# Altium integrated library Philips Discrete MOSFET - Low Power.IntLib: 30 symbols
Pins are listed as number, name and electrical type; pins without a type are passive.

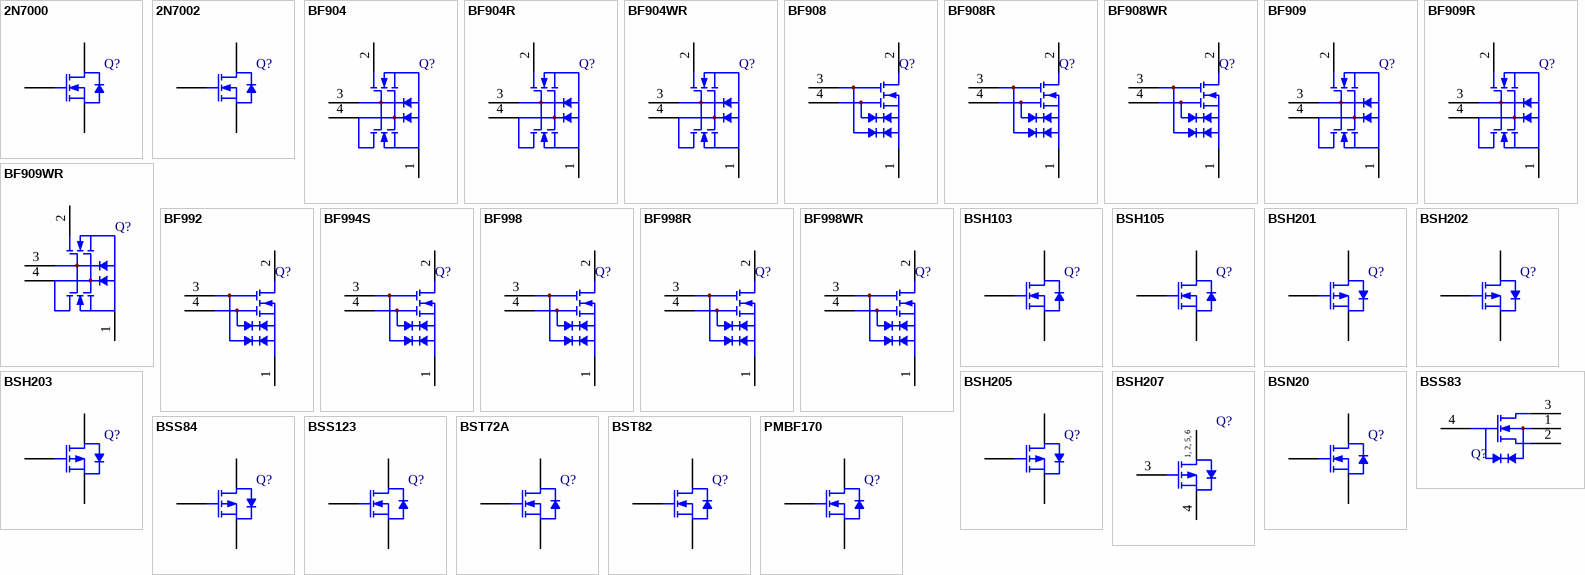
[diagram p0: symbols 2N7000 to PMBF170]

## 2N7000
designator Q?
N-channel Enhancement Mode Field-effect Transistor; Published: 17-Sep-2003; DatasheetVersion: 19-May-2000; PackageVersion: rev3, May-2000; PackageReference: SOT54; Publisher: Altium Limited; PackageDescription: TO, Flat Index; 3 In-Line, Axial Leads; Body Dia. 4.6mm; Leads 0.48 x 0.45 mm (max); Code_JEDEC: TO-92; ComponentLink1Description: Manufacturer Link; ComponentLink1URL: http://www.semiconductors.philips.com/; ComponentLink2Description: Datasheet; ComponentLink2URL: http://www.semiconductors.philips.com/acrobat/datasheets/2N7000-03.pdf
footprint SOT54 (TO, Flat Index; 3 In-Line, Axial Leads; Body Dia. 4.6mm; Leads 0.48 x 0.45 mm (max))
simulation model 2N7000 (SUBCKT)
pins: 1 D, 2 G, 3 S

## 2N7002
designator Q?
N-channel Enhancement Mode Field-effect Transistor; Published: 17-Sep-2003; DatasheetVersion: 27-Jul-2000; PackageVersion: May-1999; PackageReference: SOT23; Publisher: Altium Limited; PackageDescription: SOT-23; 3 Leads; Body 3.0 x 2.5 mm, inc. leads (LxW max); ComponentLink1Description: Manufacturer Link; ComponentLink1URL: http://www.semiconductors.philips.com/; ComponentLink2Description: Datasheet; ComponentLink2URL: http://www.semiconductors.philips.com/acrobat/datasheets/2N7002_4.pdf
footprint SOT23 (SOT-23; 3 Leads; Body 3.0 x 2.5 mm, inc. leads (LxW max))
simulation model 2N7002 (SUBCKT)
pins: 1 G, 2 S, 3 D

## BF904
designator Q?
N-channel Dual-gate MOSFET; Published: 17-Sep-2003; DatasheetVersion: 17-May-1999; PackageVersion: Oct-2001; PackageReference: SOT143B; Publisher: Altium Limited; PackageDescription: SOT-143; 4 Leads; Body 3 x 2.5 mm, inc. leads (LxW max); ComponentLink1Description: Manufacturer Link; ComponentLink1URL: http://www.semiconductors.philips.com/; ComponentLink2Description: Datasheet; ComponentLink2URL: http://www.semiconductors.philips.com/acrobat/datasheets/BF904_904R_5.pdf
footprint SOT143B (SOT-143; 4 Leads; Body 3 x 2.5 mm, inc. leads (LxW max))
simulation model BF904 (SUBCKT)
pins: 1 S, 2 D, 3 G2, 4 G1

## BF904R
designator Q?
N-channel Dual-gate MOSFET; Published: 17-Sep-2003; DatasheetVersion: 17-May-1999; PackageVersion: May-1999; PackageReference: SOT143R; Publisher: Altium Limited; PackageDescription: SOT-143; 4 Leads; Body 3 x 2.5 mm, inc. leads (LxW max); Reverse Pinning; ComponentLink1Description: Manufacturer Link; ComponentLink1URL: http://www.semiconductors.philips.com/; ComponentLink2Description: Datasheet; ComponentLink2URL: http://www.semiconductors.philips.com/acrobat/datasheets/BF904_904R_5.pdf
footprint SOT143R (SOT-143; 4 Leads; Body 3 x 2.5 mm, inc. leads (LxW max); Reverse Pinning)
simulation model BF904R (SUBCKT)
pins: 1 S, 2 D, 3 G2, 4 G1

## BF904WR
designator Q?
N-channel Dual-gate MOSFET; Published: 17-Sep-2003; DatasheetVersion: 25-Apr-1995; PackageVersion: Jul-1998; PackageReference: SOT343R; Publisher: Altium Limited; PackageDescription: SOT-343; 4 Leads; Body 2.2 x 2.2 mm, inc. leads (LxW max); Reverse Pinning; ComponentLink1Description: Manufacturer Link; ComponentLink1URL: http://www.semiconductors.philips.com/; ComponentLink2Description: Datasheet; ComponentLink2URL: http://www.semiconductors.philips.com/acrobat/datasheets/BF904WR_1.pdf
footprint SOT343R (SOT-343; 4 Leads; Body 2.2 x 2.2 mm, inc. leads (LxW max); Reverse Pinning)
simulation model BF904WR (SUBCKT)
pins: 1 S, 2 D, 3 G2, 4 G1

## BF908
designator Q?
Dual-gate MOSFET; Published: 17-Sep-2003; DatasheetVersion: 30-Jul-1996; PackageVersion: Sep-1996; PackageReference: SOT143; Publisher: Altium Limited; PackageDescription: SOT-143; 4 Leads; Body 3 x 2.5 mm, inc. leads (LxW max); ComponentLink1Description: Manufacturer Link; ComponentLink1URL: http://www.semiconductors.philips.com/; ComponentLink2Description: Datasheet; ComponentLink2URL: http://www.semiconductors.philips.com/acrobat/datasheets/BF908-R_2.pdf
footprint SOT143 (SOT-143; 4 Leads; Body 3 x 2.5 mm, inc. leads (LxW max))
simulation model BF908 (SUBCKT)
pins: 1 S, 2 D, 3 G2, 4 G1

## BF908R
designator Q?
Dual-gate MOSFET; Published: 17-Sep-2003; DatasheetVersion: 30-Jul-1996; PackageVersion: May-1999; PackageReference: SOT143R; Publisher: Altium Limited; PackageDescription: SOT-143; 4 Leads; Body 3 x 2.5 mm, inc. leads (LxW max); Reverse Pinning; ComponentLink1Description: Manufacturer Link; ComponentLink1URL: http://www.semiconductors.philips.com/; ComponentLink2Description: Datasheet; ComponentLink2URL: http://www.semiconductors.philips.com/acrobat/datasheets/BF908-R_2.pdf
footprint SOT143R (SOT-143; 4 Leads; Body 3 x 2.5 mm, inc. leads (LxW max); Reverse Pinning)
simulation model BF908R (SUBCKT)
pins: 1 S, 2 D, 3 G2, 4 G1

## BF908WR
designator Q?
N-channel Dual-gate MOSFET; Published: 17-Sep-2003; DatasheetVersion: 25-Apr-1995; PackageVersion: Jul-1998; PackageReference: SOT343R; Publisher: Altium Limited; PackageDescription: SOT-343; 4 Leads; Body 2.2 x 2.2 mm, inc. leads (LxW max); Reverse Pinning; ComponentLink1Description: Manufacturer Link; ComponentLink1URL: http://www.semiconductors.philips.com/; ComponentLink2Description: Datasheet; ComponentLink2URL: http://www.semiconductors.philips.com/acrobat/datasheets/BF908WR_1.pdf
footprint SOT343R (SOT-343; 4 Leads; Body 2.2 x 2.2 mm, inc. leads (LxW max); Reverse Pinning)
simulation model BF908WR (SUBCKT)
pins: 1 S, 2 D, 3 G2, 4 G1

## BF909
designator Q?
N-channel Dual-gate MOSFET; Published: 17-Sep-2003; DatasheetVersion: 25-Apr-1995; PackageVersion: Sep-1996; PackageReference: SOT143; Publisher: Altium Limited; PackageDescription: SOT-143; 4 Leads; Body 3 x 2.5 mm, inc. leads (LxW max); ComponentLink1Description: Manufacturer Link; ComponentLink1URL: http://www.semiconductors.philips.com/; ComponentLink2Description: Datasheet; ComponentLink2URL: http://www.semiconductors.philips.com/acrobat/datasheets/BF909_1.pdf
footprint SOT143 (SOT-143; 4 Leads; Body 3 x 2.5 mm, inc. leads (LxW max))
simulation model BF909 (SUBCKT)
pins: 1 S, 2 D, 3 G2, 4 G1

## BF909R
designator Q?
N-channel Dual-gate MOSFET; Published: 17-Sep-2003; DatasheetVersion: 25-Apr-1995; PackageVersion: May-1999; PackageReference: SOT143R; Publisher: Altium Limited; PackageDescription: SOT-143; 4 Leads; Body 3 x 2.5 mm, inc. leads (LxW max); Reverse Pinning; ComponentLink1Description: Manufacturer Link; ComponentLink1URL: http://www.semiconductors.philips.com/; ComponentLink2Description: Datasheet; ComponentLink2URL: http://www.semiconductors.philips.com/acrobat/datasheets/BF909_1.pdf
footprint SOT143R (SOT-143; 4 Leads; Body 3 x 2.5 mm, inc. leads (LxW max); Reverse Pinning)
simulation model BF909R (SUBCKT)
pins: 1 S, 2 D, 3 G2, 4 G1

## BF909WR
designator Q?
N-channel Dual-gate MOSFET; Published: 17-Sep-2003; DatasheetVersion: 5-Sep-1997; PackageVersion: Jul-1998; PackageReference: SOT343R; Publisher: Altium Limited; PackageDescription: SOT-343; 4 Leads; Body 2.2 x 2.2 mm, inc. leads (LxW max); Reverse Pinning; ComponentLink1Description: Manufacturer Link; ComponentLink1URL: http://www.semiconductors.philips.com/; ComponentLink2Description: Datasheet; ComponentLink2URL: http://www.semiconductors.philips.com/acrobat/datasheets/BF909WR_2.pdf
footprint SOT343R (SOT-343; 4 Leads; Body 2.2 x 2.2 mm, inc. leads (LxW max); Reverse Pinning)
simulation model BF909WR (SUBCKT)
pins: 1 S, 2 D, 3 G2, 4 G1

## BF992
designator Q?
Silicon N-channel Dual-gate MOSFET; Published: 17-Sep-2003; DatasheetVersion: 11-Aug-1999; PackageVersion: Oct-2001; PackageReference: SOT143B; Publisher: Altium Limited; PackageDescription: SOT-143; 4 Leads; Body 3 x 2.5 mm, inc. leads (LxW max); ComponentLink1Description: Manufacturer Link; ComponentLink1URL: http://www.semiconductors.philips.com/; ComponentLink2Description: Datasheet; ComponentLink2URL: http://www.semiconductors.philips.com/acrobat/datasheets/BF992_3.pdf
footprint SOT143B (SOT-143; 4 Leads; Body 3 x 2.5 mm, inc. leads (LxW max))
simulation model BF992 (SUBCKT)
pins: 1 S, 2 D, 3 G2, 4 G1

## BF994S
designator Q?
N-channel Dual-gate MOSFET; Published: 17-Sep-2003; DatasheetVersion: Jul-1993; PackageVersion: Sep-1996; PackageReference: SOT143; Publisher: Altium Limited; PackageDescription: SOT-143; 4 Leads; Body 3 x 2.5 mm, inc. leads (LxW max); ComponentLink1Description: Manufacturer Link; ComponentLink1URL: http://www.semiconductors.philips.com/; ComponentLink2Description: Datasheet; ComponentLink2URL: http://www.semiconductors.philips.com/acrobat/datasheets/BF994S_2.pdf
footprint SOT143 (SOT-143; 4 Leads; Body 3 x 2.5 mm, inc. leads (LxW max))
simulation model BF994S (SUBCKT)
pins: 1 S, 2 D, 3 G2, 4 G1

## BF998
designator Q?
Silicon N-channel Dual-gate MOSFET; Published: 17-Sep-2003; DatasheetVersion: Aug-1996; PackageVersion: Sep-1996; PackageReference: SOT143; Publisher: Altium Limited; PackageDescription: SOT-143; 4 Leads; Body 3 x 2.5 mm, inc. leads (LxW max); ComponentLink1Description: Manufacturer Link; ComponentLink1URL: http://www.semiconductors.philips.com/; ComponentLink2Description: Datasheet; ComponentLink2URL: http://www.semiconductors.philips.com/acrobat/datasheets/BF998_2.pdf
footprint SOT143 (SOT-143; 4 Leads; Body 3 x 2.5 mm, inc. leads (LxW max))
simulation model BF998 (SUBCKT)
pins: 1 S, 2 D, 3 G2, 4 G1

## BF998R
designator Q?
Silicon N-channel Dual-gate MOSFET; Published: 17-Sep-2003; DatasheetVersion: Aug-1996; PackageVersion: May-1999; PackageReference: SOT143R; Publisher: Altium Limited; PackageDescription: SOT-143; 4 Leads; Body 3 x 2.5 mm, inc. leads (LxW max); Reverse Pinning; ComponentLink1Description: Manufacturer Link; ComponentLink1URL: http://www.semiconductors.philips.com/; ComponentLink2Description: Datasheet; ComponentLink2URL: http://www.semiconductors.philips.com/acrobat/datasheets/BF998_2.pdf
footprint SOT143R (SOT-143; 4 Leads; Body 3 x 2.5 mm, inc. leads (LxW max); Reverse Pinning)
simulation model BF998R (SUBCKT)
pins: 1 S, 2 D, 3 G2, 4 G1

## BF998WR
designator Q?
N-channel Dual-gate MOSFET; Published: 17-Sep-2003; DatasheetVersion: 5-Sep-1997; PackageVersion: Jul-1998; PackageReference: SOT343R; Publisher: Altium Limited; PackageDescription: SOT-343; 4 Leads; Body 2.2 x 2.2 mm, inc. leads (LxW max); Reverse Pinning; ComponentLink1Description: Manufacturer Link; ComponentLink1URL: http://www.semiconductors.philips.com/; ComponentLink2Description: Datasheet; ComponentLink2URL: http://www.semiconductors.philips.com/acrobat/datasheets/BF998WR_2.pdf
footprint SOT343R (SOT-343; 4 Leads; Body 2.2 x 2.2 mm, inc. leads (LxW max); Reverse Pinning)
simulation model BF998WR (SUBCKT)
pins: 1 S, 2 D, 3 G2, 4 G1

## BSH103
designator Q?
N-channel Enhancement Mode MOSFET; Published: 17-Sep-2003; DatasheetVersion: 11-Feb-1998; PackageVersion: May-1999; PackageReference: SOT23; Publisher: Altium Limited; PackageDescription: SOT-23; 3 Leads; Body 3.0 x 2.5 mm, inc. leads (LxW max); ComponentLink1Description: Manufacturer Link; ComponentLink1URL: http://www.semiconductors.philips.com/; ComponentLink2Description: Datasheet; ComponentLink2URL: http://www.semiconductors.philips.com/acrobat/datasheets/BSH103_4.pdf
footprint SOT23 (SOT-23; 3 Leads; Body 3.0 x 2.5 mm, inc. leads (LxW max))
simulation model BSH103 (SUBCKT)
pins: 1 G, 2 S, 3 D

## BSH105
designator Q?
N-channel Enhancement Mode MOSFET; Published: 17-Sep-2003; DatasheetVersion: Aug-1998; PackageVersion: May-1999; PackageReference: SOT23; Publisher: Altium Limited; PackageDescription: SOT-23; 3 Leads; Body 3.0 x 2.5 mm, inc. leads (LxW max); ComponentLink1Description: Manufacturer Link; ComponentLink1URL: http://www.semiconductors.philips.com/; ComponentLink2Description: Datasheet; ComponentLink2URL: http://www.semiconductors.philips.com/acrobat/datasheets/BSH105_3.pdf
footprint SOT23 (SOT-23; 3 Leads; Body 3.0 x 2.5 mm, inc. leads (LxW max))
simulation model BSH105 (SUBCKT)
pins: 1 G, 2 S, 3 D

## BSH201
designator Q?
P-channel Enhancement Mode MOSFET; Published: 17-Sep-2003; DatasheetVersion: Aug-1998; PackageVersion: May-1999; PackageReference: SOT23; Publisher: Altium Limited; PackageDescription: SOT-23; 3 Leads; Body 3.0 x 2.5 mm, inc. leads (LxW max); ComponentLink1Description: Manufacturer Link; ComponentLink1URL: http://www.semiconductors.philips.com/; ComponentLink2Description: Datasheet; ComponentLink2URL: http://www.semiconductors.philips.com/acrobat/datasheets/BSH201_3.pdf
footprint SOT23 (SOT-23; 3 Leads; Body 3.0 x 2.5 mm, inc. leads (LxW max))
simulation model BSH201 (SUBCKT)
pins: 1 G, 2 S, 3 D

## BSH202
designator Q?
P-channel Enhancement Mode MOSFET; Published: 17-Sep-2003; DatasheetVersion: Aug-1998; PackageVersion: May-1999; PackageReference: SOT23; Publisher: Altium Limited; PackageDescription: SOT-23; 3 Leads; Body 3.0 x 2.5 mm, inc. leads (LxW max); ComponentLink1Description: Manufacturer Link; ComponentLink1URL: http://www.semiconductors.philips.com/; ComponentLink2Description: Datasheet; ComponentLink2URL: http://www.semiconductors.philips.com/acrobat/datasheets/BSH202_3.pdf
footprint SOT23 (SOT-23; 3 Leads; Body 3.0 x 2.5 mm, inc. leads (LxW max))
simulation model BSH202 (SUBCKT)
pins: 1 G, 2 S, 3 D

## BSH203
designator Q?
P-channel Enhancement Mode MOSFET; Published: 17-Sep-2003; DatasheetVersion: Aug-1998; PackageVersion: May-1999; PackageReference: SOT23; Publisher: Altium Limited; PackageDescription: SOT-23; 3 Leads; Body 3.0 x 2.5 mm, inc. leads (LxW max); ComponentLink1Description: Manufacturer Link; ComponentLink1URL: http://www.semiconductors.philips.com/; ComponentLink2Description: Datasheet; ComponentLink2URL: http://www.semiconductors.philips.com/acrobat/datasheets/BSH203_3.pdf
footprint SOT23 (SOT-23; 3 Leads; Body 3.0 x 2.5 mm, inc. leads (LxW max))
simulation model BSH203 (SUBCKT)
pins: 1 G, 2 S, 3 D

## BSH205
designator Q?
P-channel Enhancement Mode MOSFET; Published: 17-Sep-2003; DatasheetVersion: Aug-1998; PackageVersion: May-1999; PackageReference: SOT23; Publisher: Altium Limited; PackageDescription: SOT-23; 3 Leads; Body 3.0 x 2.5 mm, inc. leads (LxW max); ComponentLink1Description: Manufacturer Link; ComponentLink1URL: http://www.semiconductors.philips.com/; ComponentLink2Description: Datasheet; ComponentLink2URL: http://www.semiconductors.philips.com/acrobat/datasheets/BSH205_3.pdf
footprint SOT23 (SOT-23; 3 Leads; Body 3.0 x 2.5 mm, inc. leads (LxW max))
simulation model BSH205 (SUBCKT)
pins: 1 G, 2 S, 3 D

## BSH207
designator Q?
P-channel Enhancement Mode MOSFET; Published: 17-Sep-2003; DatasheetVersion: Aug-1998; PackageVersion: May-2001; PackageReference: SOT457; Publisher: Altium Limited; PackageDescription: SOT-457/SC-74; 6 Leads; Body 3.1 x 3 mm, inc. leads (LxW max); ComponentLink1Description: Manufacturer Link; ComponentLink1URL: http://www.semiconductors.philips.com/; ComponentLink2Description: Datasheet; ComponentLink2URL: http://www.semiconductors.philips.com/acrobat/datasheets/BSH207_3.pdf
footprint SOT457 (SOT-457/SC-74; 6 Leads; Body 3.1 x 3 mm, inc. leads (LxW max))
simulation model BSH207 (SUBCKT)
pins: 1 D, 2 D, 3 G, 4 S, 5 D, 6 D
text: 1, 2, 5, 6

## BSN20
designator Q?
N-channel Enhancement Mode FET; Published: 17-Sep-2003; DatasheetVersion: 26-Jun-2000; PackageVersion: May-1999; PackageReference: SOT23; Publisher: Altium Limited; PackageDescription: SOT-23; 3 Leads; Body 3.0 x 2.5 mm, inc. leads (LxW max); ComponentLink1Description: Manufacturer Link; ComponentLink1URL: http://www.semiconductors.philips.com/; ComponentLink2Description: Datasheet; ComponentLink2URL: http://www.semiconductors.philips.com/acrobat/datasheets/BSN20-03.pdf
footprint SOT23 (SOT-23; 3 Leads; Body 3.0 x 2.5 mm, inc. leads (LxW max))
simulation model BSN20 (SUBCKT)
pins: 1 G, 2 S, 3 D

## BSS83
designator Q?
MOSFET N-channel Enhancement Switching Transistor; Published: 17-Sep-2003; DatasheetVersion: Apr-1991; PackageVersion: Oct-2001; PackageReference: SOT143B; Publisher: Altium Limited; PackageDescription: SOT-143; 4 Leads; Body 3 x 2.5 mm, inc. leads (LxW max); ComponentLink1Description: Manufacturer Link; ComponentLink1URL: http://www.semiconductors.philips.com/; ComponentLink2Description: Datasheet; ComponentLink2URL: http://www.semiconductors.philips.com/acrobat/datasheets/BSS83_CNV_2.pdf
footprint SOT143B (SOT-143; 4 Leads; Body 3 x 2.5 mm, inc. leads (LxW max))
simulation model BSS83 (NEMOS)
pins: 1 b, 2 S, 3 D, 4 G

## BSS84
designator Q?
P-channel Enhancement Mode Vertical D-MOSFET; Published: 17-Sep-2003; DatasheetVersion: 18-Jun-1997; PackageVersion: May-1999; PackageReference: SOT23; Publisher: Altium Limited; PackageDescription: SOT-23; 3 Leads; Body 3.0 x 2.5 mm, inc. leads (LxW max); ComponentLink1Description: Manufacturer Link; ComponentLink1URL: http://www.semiconductors.philips.com/; ComponentLink2Description: Datasheet; ComponentLink2URL: http://www.semiconductors.philips.com/acrobat/datasheets/BSS84_3.pdf
footprint SOT23 (SOT-23; 3 Leads; Body 3.0 x 2.5 mm, inc. leads (LxW max))
simulation model BSS84 (SUBCKT)
pins: 1 G, 2 S, 3 D

## BSS123
designator Q?
N-channel Enhancement Mode Vertical D-MOSFET; Published: 17-Sep-2003; DatasheetVersion: Apr-1995; PackageVersion: May-1999; PackageReference: SOT23; Publisher: Altium Limited; PackageDescription: SOT-23; 3 Leads; Body 3.0 x 2.5 mm, inc. leads (LxW max); ComponentLink1Description: Manufacturer Link; ComponentLink1URL: http://www.semiconductors.philips.com/; ComponentLink2Description: Datasheet; ComponentLink2URL: http://www.semiconductors.philips.com/acrobat/datasheets/BSS123_3.pdf
footprint SOT23 (SOT-23; 3 Leads; Body 3.0 x 2.5 mm, inc. leads (LxW max))
simulation model BSS123 (SUBCKT)
pins: 1 G, 2 S, 3 D

## BST72A
designator Q?
N-channel Enhancement Mode Field-effect Transistor; Published: 17-Sep-2003; DatasheetVersion: 25-Jul-2000; PackageVersion: rev3, May-2000; PackageReference: SOT54; Publisher: Altium Limited; PackageDescription: TO, Flat Index; 3 In-Line, Axial Leads; Body Dia. 4.6mm; Leads 0.48 x 0.45 mm (max); Code_JEDEC: TO-92; ComponentLink1Description: Manufacturer Link; ComponentLink1URL: http://www.semiconductors.philips.com/; ComponentLink2Description: Datasheet; ComponentLink2URL: http://www.semiconductors.philips.com/acrobat/datasheets/BST72A-03.pdf
footprint SOT54 (TO, Flat Index; 3 In-Line, Axial Leads; Body Dia. 4.6mm; Leads 0.48 x 0.45 mm (max))
simulation model BST72A (SUBCKT)
pins: 1 S, 2 G, 3 D

## BST82
designator Q?
N-channel Enhancement Mode Field-effect Transistor; Published: 17-Sep-2003; DatasheetVersion: 26-Jul-2000; PackageVersion: May-1999; PackageReference: SOT23; Publisher: Altium Limited; PackageDescription: SOT-23; 3 Leads; Body 3.0 x 2.5 mm, inc. leads (LxW max); ComponentLink1Description: Manufacturer Link; ComponentLink1URL: http://www.semiconductors.philips.com/; ComponentLink2Description: Datasheet; ComponentLink2URL: http://www.semiconductors.philips.com/acrobat/datasheets/BST82-03.pdf
footprint SOT23 (SOT-23; 3 Leads; Body 3.0 x 2.5 mm, inc. leads (LxW max))
simulation model BST82 (SUBCKT)
pins: 1 G, 2 S, 3 D

## PMBF170
designator Q?
N-channel Enhancement Mode Field-effect Transistor; Published: 17-Sep-2003; DatasheetVersion: 23-Jun-2000; PackageVersion: May-1999; PackageReference: SOT23; Publisher: Altium Limited; PackageDescription: SOT-23; 3 Leads; Body 3.0 x 2.5 mm, inc. leads (LxW max); ComponentLink1Description: Manufacturer Link; ComponentLink1URL: http://www.semiconductors.philips.com/; ComponentLink2Description: Datasheet; ComponentLink2URL: http://www.semiconductors.philips.com/acrobat/datasheets/PMBF170-03.pdf
footprint SOT23 (SOT-23; 3 Leads; Body 3.0 x 2.5 mm, inc. leads (LxW max))
simulation model PMBF170 (SUBCKT)
pins: 1 G, 2 S, 3 D